# EAGLE library part MAIN_CONNECTOR (library Mechanical)
Digikey Part Number: S5750-06-ND Manufacturer Part Number: NPPN062AFCN-RC
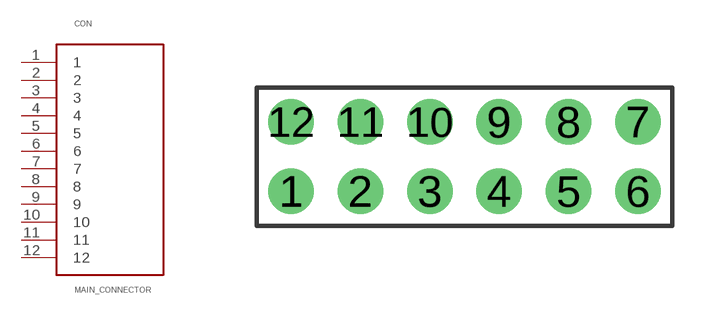
[diagram p2: symbol with the pads of FEMALE_HEADER_2MM_2X6; footprint FEMALE_HEADER_2MM_2X6]

Designator prefix CON

## MAIN_CONNECTOR  [FEMALE_HEADER_2MM_2X6]
1  1
2  2
3  3
4  4
5  5
6  6
7  7
8  8
9  9
10  10
11  11
12  12

## Footprint FEMALE_HEADER_2MM_2X6 (pad centres in mm)
drill 0.8: 1 -5,-1; 2 -3,-1; 3 -1,-1; 4 1,-1; 5 3,-1; 6 5,-1; 7 5,1; 8 3,1; 9 1,1; 10 -1,1; 11 -3,1; 12 -5,1